# Altium schematic symbol library MP900.SchLib: 1 symbol
Pins are listed as number, name and electrical type; pins without a type are passive.

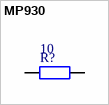
[diagram p0: symbol MP930]

## MP930
designator R?  value 10
MP900 and MP9000 Series Kool-Pak® Power Film Resistors TO-126, TO-220 and TO-247 Style
footprint MP900_TO220
pins: 1, 2